# EAGLE library part ITSY-M0_EXP (library Adafruit_Modules)
Adafruit ItstBitsy M0 Express (ATSAMD21G18 32-bit Cortex M0+ @ 48mHz)
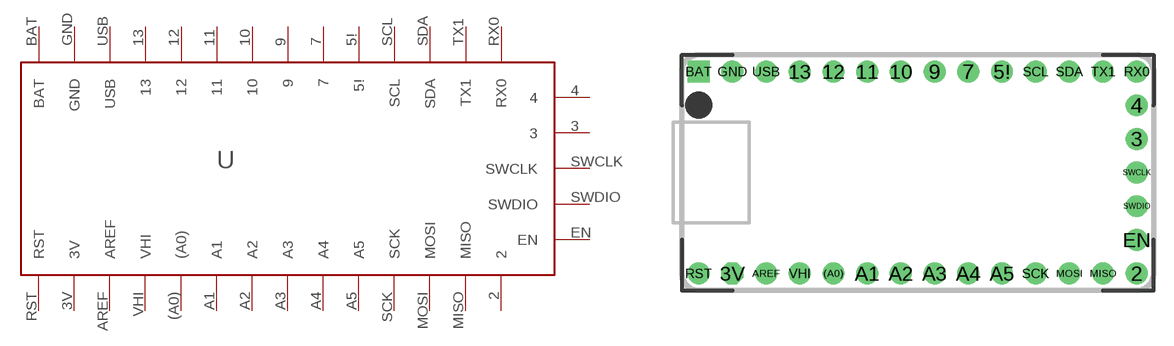
[diagram p0: symbol with the pads of ITSY-M0; footprint ITSY-M0]

Designator prefix -

## ITSY-M0_EXP (ADAFRUIT: 3727)  [ITSY-M0]
2  2
3  3
3V  3V  out
4  4
5!  5!
7  7
9  9
10  10
11  11
12  12
13  13
(A0)  (A0)
A1  A1
A2  A2
A3  A3
A4  A4
A5  A5
AREF  AREF  in
BAT  BAT  pwr
EN  EN  pas
GND  GND  pwr
MISO  MISO
MOSI  MOSI
RST  RST  pas
RX0  RX0
SCK  SCK
SCL  SCL
SDA  SDA
SWCLK  SWCLK
SWDIO  SWDIO
TX1  TX1
USB  USB  out
VHI  VHI  out

## Footprint ITSY-M0 (pad centres in mm)
Adafruit ItsyBitsy M0 Express
drill 1.1: 2 10.16,-7.62; 3 10.16,2.54; 4 10.16,5.08; 5! 0,7.62; 7 -2.54,7.62; 9 -5.08,7.62; 10 -7.62,7.62; 11 -10.16,7.62; 12 -12.7,7.62; 13 -15.24,7.62; (A0) -12.7,-7.62; A1 -10.16,-7.62; A2 -7.62,-7.62; A3 -5.08,-7.62; A4 -2.54,-7.62; A5 0,-7.62; AREF -17.78,-7.62; EN 10.16,-5.08; GND -20.32,7.62; MISO 7.62,-7.62; MOSI 5.08,-7.62; RST -22.86,-7.62; RX0 10.16,7.62; SCK 2.54,-7.62; SCL 2.54,7.62; SDA 5.08,7.62; SWCLK 10.16,0; SWDIO 10.16,-2.54; TX1 7.62,7.62; USB -17.78,7.62; VHI -15.24,-7.62
drill 1.1 octagon: 3V -20.32,-7.62
drill 1.1 square: BAT -22.86,7.62